# EAGLE library part NODEMCU (library FansElectronics-Modul)
nodeMCU
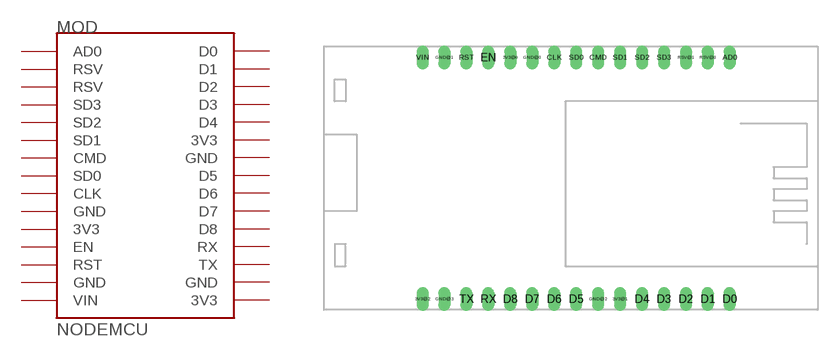
[diagram p5: symbol with the pads of NODEMCU; footprint NODEMCU]

Designator prefix MOD

## NODEMCU  [NODEMCU]
3V3@0  3V3
3V3@1  3V3
3V3@2  3V3
AD0  AD0
CLK  CLK
CMD  CMD
D0  D0
D1  D1
D2  D2
D3  D3
D4  D4
D5  D5
D6  D6
D7  D7
D8  D8
EN  EN
GND@0  GND
GND@1  GND
GND@2  GND
GND@3  GND
RST  RST
RSV@0  RSV
RSV@1  RSV
RX  RX
SD0  SD0
SD1  SD1
SD2  SD2
SD3  SD3
TX  TX
VIN  VIN

## Footprint NODEMCU (pad centres in mm)
drill 0.9 long: 3V3@0 -7.62,16.51; 3V3@1 5.08,-11.43; 3V3@2 -17.78,-11.43; AD0 17.78,16.51; CLK -2.54,16.51; CMD 2.54,16.51; D0 17.78,-11.43; D1 15.24,-11.43; D2 12.7,-11.43; D3 10.16,-11.43; D4 7.62,-11.43; D5 0,-11.43; D6 -2.54,-11.43; D7 -5.08,-11.43; D8 -7.62,-11.43; EN -10.16,16.51; GND@0 -5.08,16.51; GND@1 -15.24,16.51; GND@2 2.54,-11.43; GND@3 -15.24,-11.43; RST -12.7,16.51; RSV@0 15.24,16.51; RSV@1 12.7,16.51; RX -10.16,-11.43; SD0 0,16.51; SD1 5.08,16.51; SD2 7.62,16.51; SD3 10.16,16.51; TX -12.7,-11.43; VIN -17.78,16.51